# Altium footprint library 主机控制板.PCBLIB: 37 footprints (part 1 of 3)
Each footprint in its own frame and in the unit in brackets; x right, y up, seen from the top. Pads: shape width x height; smd on the part's side, far side on the other; paste and mask are expansions set on the pad; w line width, h text height; cw(c..) or ccw(c..) is an arc to the next point about the centre after c.
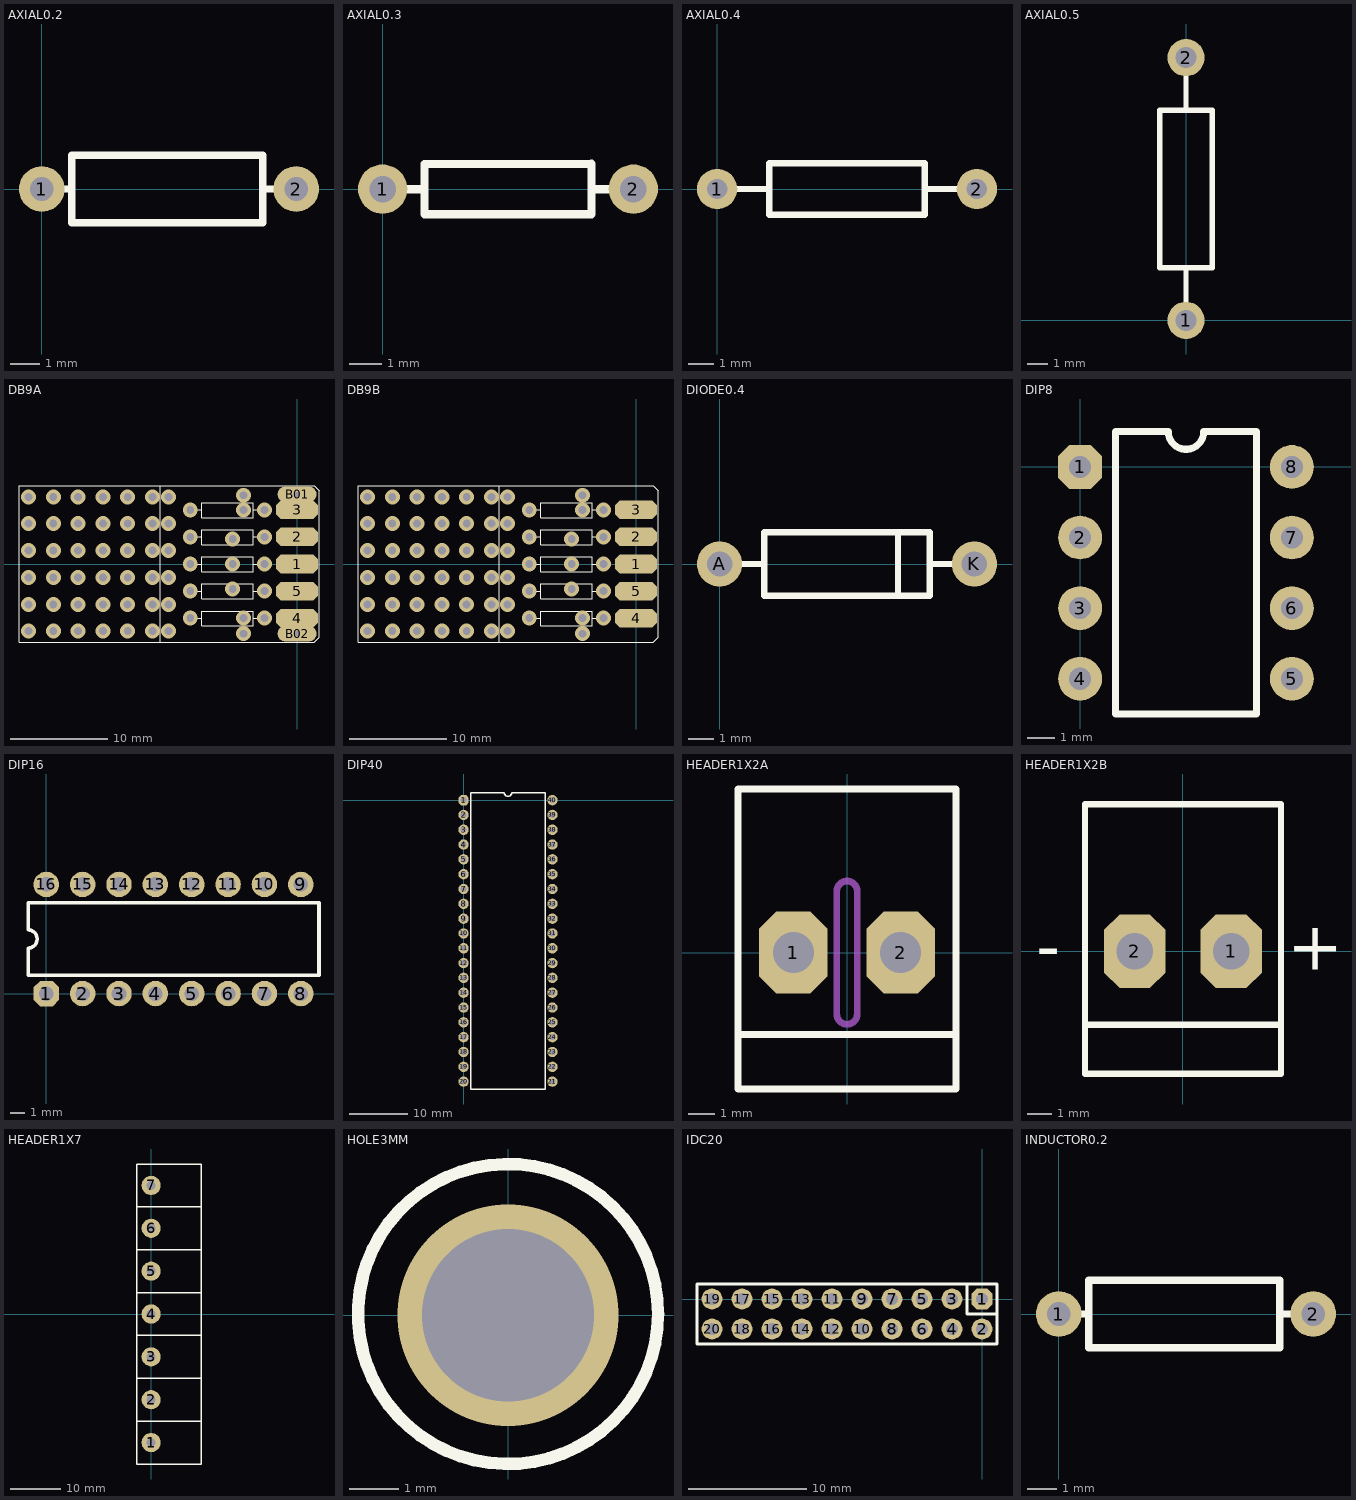
[diagram p0: the footprints below, top view; thin cyan lines are the x and y axes]

## AXIAL0.2 [mm]
pads (2):
  round 1.55 hole 0.8: 1(0,0) 2(8.636,0)
顶层丝印:
  lines w0.254: 0,0 1.016,0 ; 8.636,0 7.493,0 ; 1.016,0 1.016,-1.143 7.493,-1.143 7.493,0 ; 1.016,0 1.016,1.143 7.493,1.143 7.493,0

## AXIAL0.3 [mm]
pads (2):
  round 1.5 hole 0.8: 1(0,0) 2(7.62,0)
顶层丝印:
  lines w0.254: 0,0 1.27,0 ; 7.62,0 6.35,0 ; 6.35,0 6.35,-0.762 1.27,-0.762 1.27,0.762 6.351,0.769 6.35,0

## AXIAL0.4 [mil]
pads (2):
  round 62 hole 31.5: 1(0,0) 2(400,0)
顶层丝印:
  lines w10: 0,0 80,0 ; 320,0 400,0 ; 80,-40 320,-40 320,40 80,40 80,-40

## AXIAL0.5 [mm]
pads (2):
  round 1.8 hole 1.016: 1(0,0) 2(0,12.7)
顶层丝印:
  lines w0.254: 0,0 0,2.54 ; 0,10.16 0,12.7 ; -1.27,2.54 -1.27,10.16 1.27,10.16 1.27,2.54 -1.27,2.54

## DB9A [mm]
pads (11):
  oct 4.3x1.9 smd: 1(0,0) 2(0,2.77) 3(0,5.54) 4(0,-5.54) 5(0,-2.77)
  round 0 smd far side: 6(0,-4.155) 7(0,-1.385) 8(0,4.155) 9(0,1.385)
  oval 4x1.6 hole 0.5: B01(0,7.14) B02(0,-7.14)
via -3.33,-5.54 diameter 1.5 hole 0.8
via -3.33,-2.77 diameter 1.5 hole 0.8
via -3.33,0 diameter 1.5 hole 0.8
via -3.33,2.77 diameter 1.5 hole 0.8
via -3.33,5.54 diameter 1.5 hole 0.8
via -10.95,-5.54 diameter 1.5 hole 0.8
via -10.95,-2.77 diameter 1.5 hole 0.8
via -10.95,0 diameter 1.5 hole 0.8
via -10.95,2.77 diameter 1.5 hole 0.8
via -10.95,5.54 diameter 1.5 hole 0.8
via -5.48,-7.14 diameter 1.524 hole 0.8
via -5.48,-5.54 diameter 1.524 hole 0.8
via -6.6,-2.55 diameter 1.524 hole 0.8
via -6.6,0 diameter 1.524 hole 0.8
via -6.6,2.55 diameter 1.524 hole 0.8
via -5.48,5.54 diameter 1.524 hole 0.8
via -5.48,7.05 diameter 1.524 hole 0.8
via -27.52,-6.875 diameter 1.524 hole 0.8
via -27.52,-4.15 diameter 1.524 hole 0.8
via -27.52,-1.37 diameter 1.524 hole 0.8
via -27.52,1.39 diameter 1.524 hole 0.8
via -27.52,4.14 diameter 1.524 hole 0.8
via -27.52,6.875 diameter 1.524 hole 0.8
via -24.98,-6.875 diameter 1.524 hole 0.8
via -24.98,-4.15 diameter 1.524 hole 0.8
via -24.98,-1.37 diameter 1.524 hole 0.8
via -24.98,1.39 diameter 1.524 hole 0.8
via -24.98,4.14 diameter 1.524 hole 0.8
via -24.98,6.875 diameter 1.524 hole 0.8
via -22.445,-6.875 diameter 1.524 hole 0.8
via -22.445,-4.15 diameter 1.524 hole 0.8
via -22.445,-1.37 diameter 1.524 hole 0.8
via -22.445,1.39 diameter 1.524 hole 0.8
via -22.445,4.14 diameter 1.524 hole 0.8
via -22.445,6.875 diameter 1.524 hole 0.8
via -19.9,-6.875 diameter 1.524 hole 0.8
via -19.9,-4.15 diameter 1.524 hole 0.8
via -19.9,-1.37 diameter 1.524 hole 0.8
via -19.9,1.39 diameter 1.524 hole 0.8
via -19.9,4.14 diameter 1.524 hole 0.8
via -19.9,6.875 diameter 1.524 hole 0.8
via -17.36,-6.875 diameter 1.524 hole 0.8
via -17.365,-4.15 diameter 1.524 hole 0.8
via -17.36,-1.37 diameter 1.524 hole 0.8
via -17.36,1.39 diameter 1.524 hole 0.8
via -17.36,4.14 diameter 1.524 hole 0.8
via -17.36,6.875 diameter 1.524 hole 0.8
via -14.825,-6.875 diameter 1.524 hole 0.8
via -14.825,-4.15 diameter 1.524 hole 0.8
via -14.825,-1.37 diameter 1.524 hole 0.8
via -14.825,1.39 diameter 1.524 hole 0.8
via -14.825,4.14 diameter 1.524 hole 0.8
via -14.825,6.875 diameter 1.524 hole 0.8
via -13.175,-6.875 diameter 1.524 hole 0.8
via -13.175,-4.15 diameter 1.524 hole 0.8
via -13.175,-1.37 diameter 1.524 hole 0.8
via -13.175,1.39 diameter 1.524 hole 0.8
via -13.175,4.14 diameter 1.524 hole 0.8
via -13.175,6.875 diameter 1.524 hole 0.8
顶层丝印:
  lines w0.127: -10.95,-5.54 -9.75,-5.54 ; -10.95,-2.77 -9.75,-2.77 ; -10.95,0 -9.75,0 ; -10.95,2.77 -9.75,2.77 ; -10.95,5.54 -9.75,5.54 ; -4.5,-5.54 -3.33,-5.54 ; -4.5,-2.77 -3.33,-2.77 ; -4.5,0 -3.33,0 ; -4.5,2.77 -3.33,2.77 ; -4.5,5.54 -3.33,5.54 ; -14,-8 -14,8 ; -14,-8 1.75,-8 2.25,-7.5 2.25,7.5 1.75,8 -14,8 ; -14,-8 -28.5,-8 -28.5,8 -14,8 ; -9.75,-5.54 -9.75,-6.32 -4.5,-6.32 -4.5,-4.82 -9.75,-4.82 -9.75,-5.54 ; -9.75,-2.77 -9.75,-3.55 -4.5,-3.55 -4.5,-2.05 -9.75,-2.05 -9.75,-2.77 ; -9.75,0 -9.75,-0.78 -4.5,-0.78 -4.5,0.72 -9.75,0.72 -9.75,0 ; -9.75,2.77 -9.75,1.99 -4.5,1.99 -4.5,3.49 -9.75,3.49 -9.75,2.77 ; -9.75,5.54 -9.75,4.76 -4.5,4.76 -4.5,6.26 -9.75,6.26 -9.75,5.54

## DB9B [mm]
pads (9):
  oct 4.3x1.9 smd: 1(0,0) 2(0,2.77) 3(0,5.54) 4(0,-5.54) 5(0,-2.77)
  round 0 smd far side: 6(0,-4.155) 7(0,-1.385) 8(0,4.155) 9(0,1.385)
via -3.33,-5.54 diameter 1.5 hole 0.8
via -3.33,-2.77 diameter 1.5 hole 0.8
via -3.33,0 diameter 1.5 hole 0.8
via -3.33,2.77 diameter 1.5 hole 0.8
via -3.33,5.54 diameter 1.5 hole 0.8
via -10.95,-5.54 diameter 1.5 hole 0.8
via -10.95,-2.77 diameter 1.5 hole 0.8
via -10.95,0 diameter 1.5 hole 0.8
via -10.95,2.77 diameter 1.5 hole 0.8
via -10.95,5.54 diameter 1.5 hole 0.8
via -5.48,-7.14 diameter 1.524 hole 0.8
via -5.48,-5.54 diameter 1.524 hole 0.8
via -6.6,-2.55 diameter 1.524 hole 0.8
via -6.6,0 diameter 1.524 hole 0.8
via -6.6,2.55 diameter 1.524 hole 0.8
via -5.48,5.54 diameter 1.524 hole 0.8
via -5.48,7.05 diameter 1.524 hole 0.8
via -27.52,-6.875 diameter 1.524 hole 0.8
via -27.52,-4.15 diameter 1.524 hole 0.8
via -27.52,-1.37 diameter 1.524 hole 0.8
via -27.52,1.39 diameter 1.524 hole 0.8
via -27.52,4.14 diameter 1.524 hole 0.8
via -27.52,6.875 diameter 1.524 hole 0.8
via -24.98,-6.875 diameter 1.524 hole 0.8
via -24.98,-4.15 diameter 1.524 hole 0.8
via -24.98,-1.37 diameter 1.524 hole 0.8
via -24.98,1.39 diameter 1.524 hole 0.8
via -24.98,4.14 diameter 1.524 hole 0.8
via -24.98,6.875 diameter 1.524 hole 0.8
via -22.445,-6.875 diameter 1.524 hole 0.8
via -22.445,-4.15 diameter 1.524 hole 0.8
via -22.445,-1.37 diameter 1.524 hole 0.8
via -22.445,1.39 diameter 1.524 hole 0.8
via -22.445,4.14 diameter 1.524 hole 0.8
via -22.445,6.875 diameter 1.524 hole 0.8
via -19.9,-6.875 diameter 1.524 hole 0.8
via -19.9,-4.15 diameter 1.524 hole 0.8
via -19.9,-1.37 diameter 1.524 hole 0.8
via -19.9,1.39 diameter 1.524 hole 0.8
via -19.9,4.14 diameter 1.524 hole 0.8
via -19.9,6.875 diameter 1.524 hole 0.8
via -17.36,-6.875 diameter 1.524 hole 0.8
via -17.365,-4.15 diameter 1.524 hole 0.8
via -17.36,-1.37 diameter 1.524 hole 0.8
via -17.36,1.39 diameter 1.524 hole 0.8
via -17.36,4.14 diameter 1.524 hole 0.8
via -17.36,6.875 diameter 1.524 hole 0.8
via -14.825,-6.875 diameter 1.524 hole 0.8
via -14.825,-4.15 diameter 1.524 hole 0.8
via -14.825,-1.37 diameter 1.524 hole 0.8
via -14.825,1.39 diameter 1.524 hole 0.8
via -14.825,4.14 diameter 1.524 hole 0.8
via -14.825,6.875 diameter 1.524 hole 0.8
via -13.175,-6.875 diameter 1.524 hole 0.8
via -13.175,-4.15 diameter 1.524 hole 0.8
via -13.175,-1.37 diameter 1.524 hole 0.8
via -13.175,1.39 diameter 1.524 hole 0.8
via -13.175,4.14 diameter 1.524 hole 0.8
via -13.175,6.875 diameter 1.524 hole 0.8
顶层丝印:
  lines w0.127: -10.95,-5.54 -9.75,-5.54 ; -10.95,-2.77 -9.75,-2.77 ; -10.95,0 -9.75,0 ; -10.95,2.77 -9.75,2.77 ; -10.95,5.54 -9.75,5.54 ; -4.5,-5.54 -3.33,-5.54 ; -4.5,-2.77 -3.33,-2.77 ; -4.5,0 -3.33,0 ; -4.5,2.77 -3.33,2.77 ; -4.5,5.54 -3.33,5.54 ; -14,-8 -14,8 ; -14,-8 1.75,-8 2.25,-7.5 2.25,7.5 1.75,8 -14,8 ; -14,-8 -28.5,-8 -28.5,8 -14,8 ; -9.75,-5.54 -9.75,-6.32 -4.5,-6.32 -4.5,-4.82 -9.75,-4.82 -9.75,-5.54 ; -9.75,-2.77 -9.75,-3.55 -4.5,-3.55 -4.5,-2.05 -9.75,-2.05 -9.75,-2.77 ; -9.75,0 -9.75,-0.78 -4.5,-0.78 -4.5,0.72 -9.75,0.72 -9.75,0 ; -9.75,2.77 -9.75,1.99 -4.5,1.99 -4.5,3.49 -9.75,3.49 -9.75,2.77 ; -9.75,5.54 -9.75,4.76 -4.5,4.76 -4.5,6.26 -9.75,6.26 -9.75,5.54

## DIODE0.4 [mm]
pads (2):
  round 1.8 hole 1.016: A(0,0.005) K(10.16,0.005)
顶层丝印:
  lines w0.254: 0,0.005 1.778,0.005 ; 7.112,-1.265 7.112,1.275 ; 8.382,0.005 10.16,0.005 ; 1.778,-1.265 8.382,-1.265 8.382,1.275 1.778,1.275 1.778,-1.265

## DIP8 [mil]
pads (8):
  oct 62x62 hole 31.5: 1(0,0)
  round 62 hole 31.5: 2(0,-100) 3(0,-200) 4(0,-300) 5(300,-300) 6(300,-200) 7(300,-100) 8(300,0)
顶层丝印:
  lines w10: 50,-350 50,50 125,50 ccw(c150,50) 175,50 250,50 250,-350 50,-350

## DIP16 [mil]
pads (16):
  oct 70x70 hole 40: 1(0,0)
  round 70 hole 40: 2(100,0) 3(200,0) 4(300,0) 5(400,0) 6(500,0) 7(600,0) 8(700,0) 9(700,300) 10(600,300) 11(500,300) 12(400,300) 13(300,300) 14(200,300) 15(100,300) 16(0,300)
顶层丝印:
  lines w10: -50,50 -50,125 ccw(c-50,150) -50,175 -50,250 750,250 750,50 -50,50

## DIP40 [mil]
pads (40):
  oct 70x70 hole 40: 1(0,0)
  round 70 hole 40: 2(0,-100) 3(0,-200) 4(0,-300) 5(0,-400) 6(0,-500) 7(0,-600) 8(0,-700) 9(0,-800) 10(0,-900) 11(0,-1000) 12(0,-1100) 13(0,-1200) 14(0,-1300) 15(0,-1400) 16(0,-1500) 17(0,-1600) 18(0,-1700) 19(0,-1800) 20(0,-1900) 21(600,-1900) 22(600,-1800) 23(600,-1700) 24(600,-1600) 25(600,-1500) 26(600,-1400) 27(600,-1300) 28(600,-1200) 29(600,-1100) 30(600,-1000) 31(600,-900) 32(600,-800) 33(600,-700) 34(600,-600) 35(600,-500) 36(600,-400) 37(600,-300) 38(600,-200) 39(600,-100) 40(600,0)
顶层丝印:
  lines w10: 50,-1950 550,-1950 550,50 325,50 cw(c300,50) 275,50 50,50 50,-1950

## HEADER1X2A [mil]
pads (2):
  oct 100x120 hole 60: 1(-78.74,0) 2(78.74,0)
顶层丝印:
  lines w10: -160,-120 160,-120 ; -160,-200 160,-200 160,240 -160,240 -160,-200
机械层1:
  lines w10: -15,-90 ccw(c0,-90) 15,-90 15,90 ccw(c0,90) -15,90 -15,-90

## HEADER1X2B [mil]
pads (2):
  oct 100x120 hole 60: 1(78.74,0) 2(-78.74,0)
顶层丝印:
  lines w10: -160,-120 -160,-200 160,-200 160,-120 ; -160,-120 160,-120 ; -160,-120 -160,240 160,240 160,-120
  text "-" at -240,-30 h80
  text "+" at 170,-30 h80

## HEADER1X7 [mm]
pads (7):
  round 3.8 hole 1.8: 1(0,-25.5) 2(0,-17) 3(0,-8.5) 4(0,0) 5(0,8.5) 6(0,17) 7(0,25.5)
顶层丝印:
  lines w0.254: -2.8,-21.25 9.9,-21.25 ; -2.8,-12.75 9.9,-12.75 ; -2.8,-4.25 9.9,-4.25 ; -2.8,4.25 9.9,4.25 ; -2.8,12.75 9.9,12.75 ; -2.8,21.25 9.9,21.25 ; -2.8,-29.75 9.9,-29.75 9.9,29.75 -2.8,29.75 -2.8,-29.75

## HOLE3MM [mil]
via 0,0 diameter 177.16 hole 137.79
顶层丝印:
  circle w10: c0,1 r120

## IDC20 [mil]
pads (20):
  oct 70x70 hole 40: 1(0,0)
  round 70 hole 40: 2(0,-100) 3(-100,0) 4(-100,-100) 5(-200,0) 6(-200,-100) 7(-300,0) 8(-300,-100) 9(-400,0) 10(-400,-100) 11(-500,0) 12(-500,-100) 13(-600,0) 14(-600,-100) 15(-700,0) 16(-700,-100) 17(-800,0) 18(-800,-100) 19(-900,0) 20(-900,-100)
顶层丝印:
  lines w10: -50,50 -50,-50 50,-50 ; -950,-150 50,-150 50,50 -950,50 -950,-150

## INDUCTOR0.2 [mm]
pads (2):
  round 1.55 hole 0.8: 1(0,0) 2(8.636,0)
顶层丝印:
  lines w0.254: 0,0 1.016,0 ; 8.636,0 7.493,0 ; 1.016,0 1.016,1.143 7.493,1.143 7.493,0 ; 1.016,0 1.016,-1.143 7.493,-1.143 7.493,0